# Altium footprint library Chip Resistor - Surface Mount.PcbLib: 3 footprints
Each footprint in its own frame and in the unit in brackets; x right, y up, seen from the top. Pads: shape width x height; smd on the part's side, far side on the other; paste and mask are expansions set on the pad; w line width, h text height; cw(c..) or ccw(c..) is an arc to the next point about the centre after c.
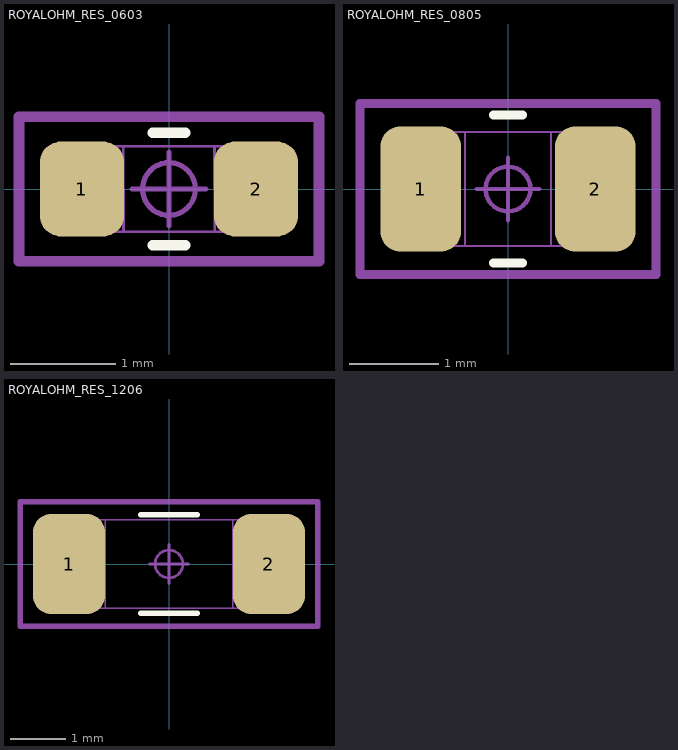
[diagram p0: the footprints below, top view; thin cyan lines are the x and y axes]

## ROYALOHM_RES_0603 [mm]
pads (2):
  rrect50% 0.8x0.9 smd paste+0 mask+0.04: 1(-0.825,0) 2(0.825,0)
Top Overlay:
  lines w0.1: -0.152,-0.533 0.152,-0.533 ; -0.152,0.533 0.152,0.533
Mechanical 13:
  lines w0.025: -0.432,0.406 -0.432,-0.394 ; 0.432,0.394 0.432,-0.406 ; -0.813,-0.406 -0.813,0.406 0.813,0.406 0.813,-0.406 -0.813,-0.406
Mechanical 15:
  circle w0.05: c0,0 r0.25
  lines w0.05: -0.35,0 0.35,0 ; 0,-0.35 0,0.35
  lines w0.1: -1.422,-0.686 1.422,-0.686 1.422,0.686 -1.422,0.686 -1.422,-0.686
3D body "RES 0603.STEP": height 0.45, standoff 0, extent -0.8,-0.4 0.8,0.4

## ROYALOHM_RES_0805 [mm]
pads (2):
  rrect50% 0.9x1.397 smd paste+0 mask+0.04: 1(-0.975,0) 2(0.975,0)
Top Overlay:
  lines w0.1: -0.162,-0.826 0.162,-0.826 ; -0.162,0.826 0.162,0.826
Mechanical 13:
  lines w0.025: -0.48,-0.635 -0.48,0.635 ; 0.48,-0.635 0.48,0.635 ; -1.016,-0.635 -1.016,0.635 1.016,0.635 1.016,-0.635 -1.016,-0.635
Mechanical 15:
  circle w0.05: c0,0 r0.25
  lines w0.05: -0.35,0 0.35,0 ; 0,-0.35 0,0.35
  lines w0.1: -1.65,-0.953 1.65,-0.953 1.65,0.953 -1.65,0.953 -1.65,-0.953
3D body "RES 0805.STEP": height 0.6, standoff 0, extent -1,-0.625 1,0.625

## ROYALOHM_RES_1206 [mm]
pads (2):
  rrect50% 1.3x1.8 smd paste+0 mask+0.04: 1(-1.8,0) 2(1.8,0)
Top Overlay:
  lines w0.1: -0.508,-0.889 0.508,-0.889 ; -0.508,0.889 0.508,0.889
Mechanical 13:
  lines w0.025: -1.15,-0.8 -1.15,0.8 ; 1.15,-0.8 1.15,0.8 ; -1.6,-0.8 -1.6,0.8 1.6,0.8 1.6,-0.8 -1.6,-0.8
Mechanical 15:
  circle w0.05: c0,0 r0.25
  lines w0.05: -0.35,0 0.35,0 ; 0,-0.35 0,0.35
  lines w0.1: -2.675,-1.118 2.675,-1.118 2.675,1.118 -2.675,1.118 -2.675,-1.118
3D body "RES 1206.STEP": height 0.6, standoff 0, extent -1.6,-0.8 1.6,0.8